# Altium footprint library IND_IHLP-5050CE_VIS.PcbLib: 1 footprints
Each footprint in its own frame and in the unit in brackets; x right, y up, seen from the top. Pads: shape width x height; smd on the part's side, far side on the other; paste and mask are expansions set on the pad; w line width, h text height; cw(c..) or ccw(c..) is an arc to the next point about the centre after c.
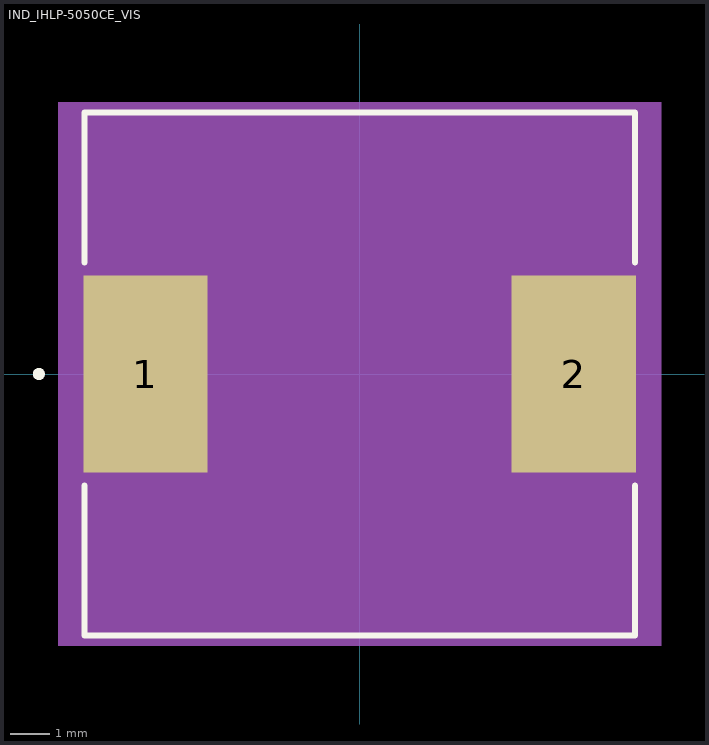
[diagram p0: the footprint, top view; thin cyan lines are the x and y axes]

## IND_IHLP-5050CE_VIS [mil]
pads (2):
  rect 123x195 smd paste+0 mask+0: 1(-212,0) 2(212,0)
Top Overlay:
  circle w6: c-317.5,0 r3
  lines w6: -272.5,-110.6 -272.5,-259 272.5,-259 272.5,-110.6 ; -272.5,110.6 -272.5,259 272.5,259 272.5,110.6
Mechanical 5:
  region: 298.5,-269 -298.5,-269 -298.5,269 298.5,269
Mechanical 13:
  circle w0: c-247.5,0 r3
  lines w1: -267.5,-254 -267.5,254 267.5,254 267.5,-254 -267.5,-254
Mechanical 15:
  region: -277.5,-107.5 -283.5,-107.5 -283.5,107.5 -277.5,107.5 -277.5,264 277.5,264 277.5,107.5 283.5,107.5 283.5,-107.5 277.5,-107.5 277.5,-264 -277.5,-264
  lines w6: -283.5,-107.5 -277.5,-107.5 -277.5,-264 277.5,-264 277.5,-107.5 283.5,-107.5 283.5,107.5 277.5,107.5 277.5,264 -277.5,264 -277.5,107.5 -283.5,107.5 -283.5,-107.5
3D body: height 10, standoff 0, extent 0,0 10,10
3D body "IND_IHLP-5050CE_VIS.step": height 140, standoff 0, extent -267.48,-254.02 267.48,254.02